# Altium footprint library rlink.PcbLib: 1 footprints
Each footprint in its own frame and in the unit in brackets; x right, y up, seen from the top. Pads: shape width x height; smd on the part's side, far side on the other; paste and mask are expansions set on the pad; w line width, h text height; cw(c..) or ccw(c..) is an arc to the next point about the centre after c.
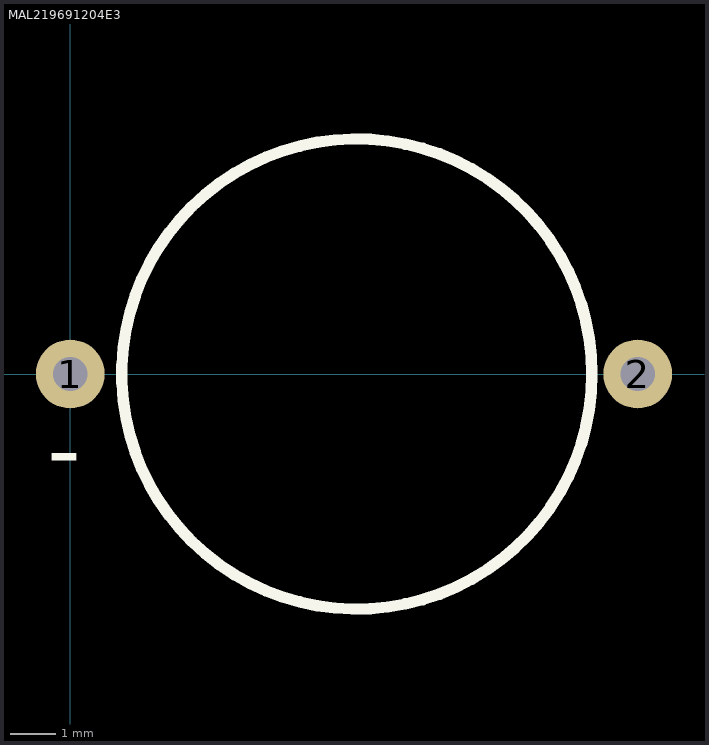
[diagram p0: the footprint, top view; thin cyan lines are the x and y axes]

## MAL219691204E3 [mil] "Super CAP 15F 5.6V"
height 394
pads (2):
  round 60 hole 30: 1(0,0) 2(495,0)
Top Overlay:
  circle w10: c250,0 r205
  text "-" at -20,-94.99 h60